# Altium integrated library WE-FB Flyback Transformer suitable for LT3573_LT3574_LT3575_LT3748.IntLib: 63 symbols
Pins are listed as number, name and electrical type; pins without a type are passive.

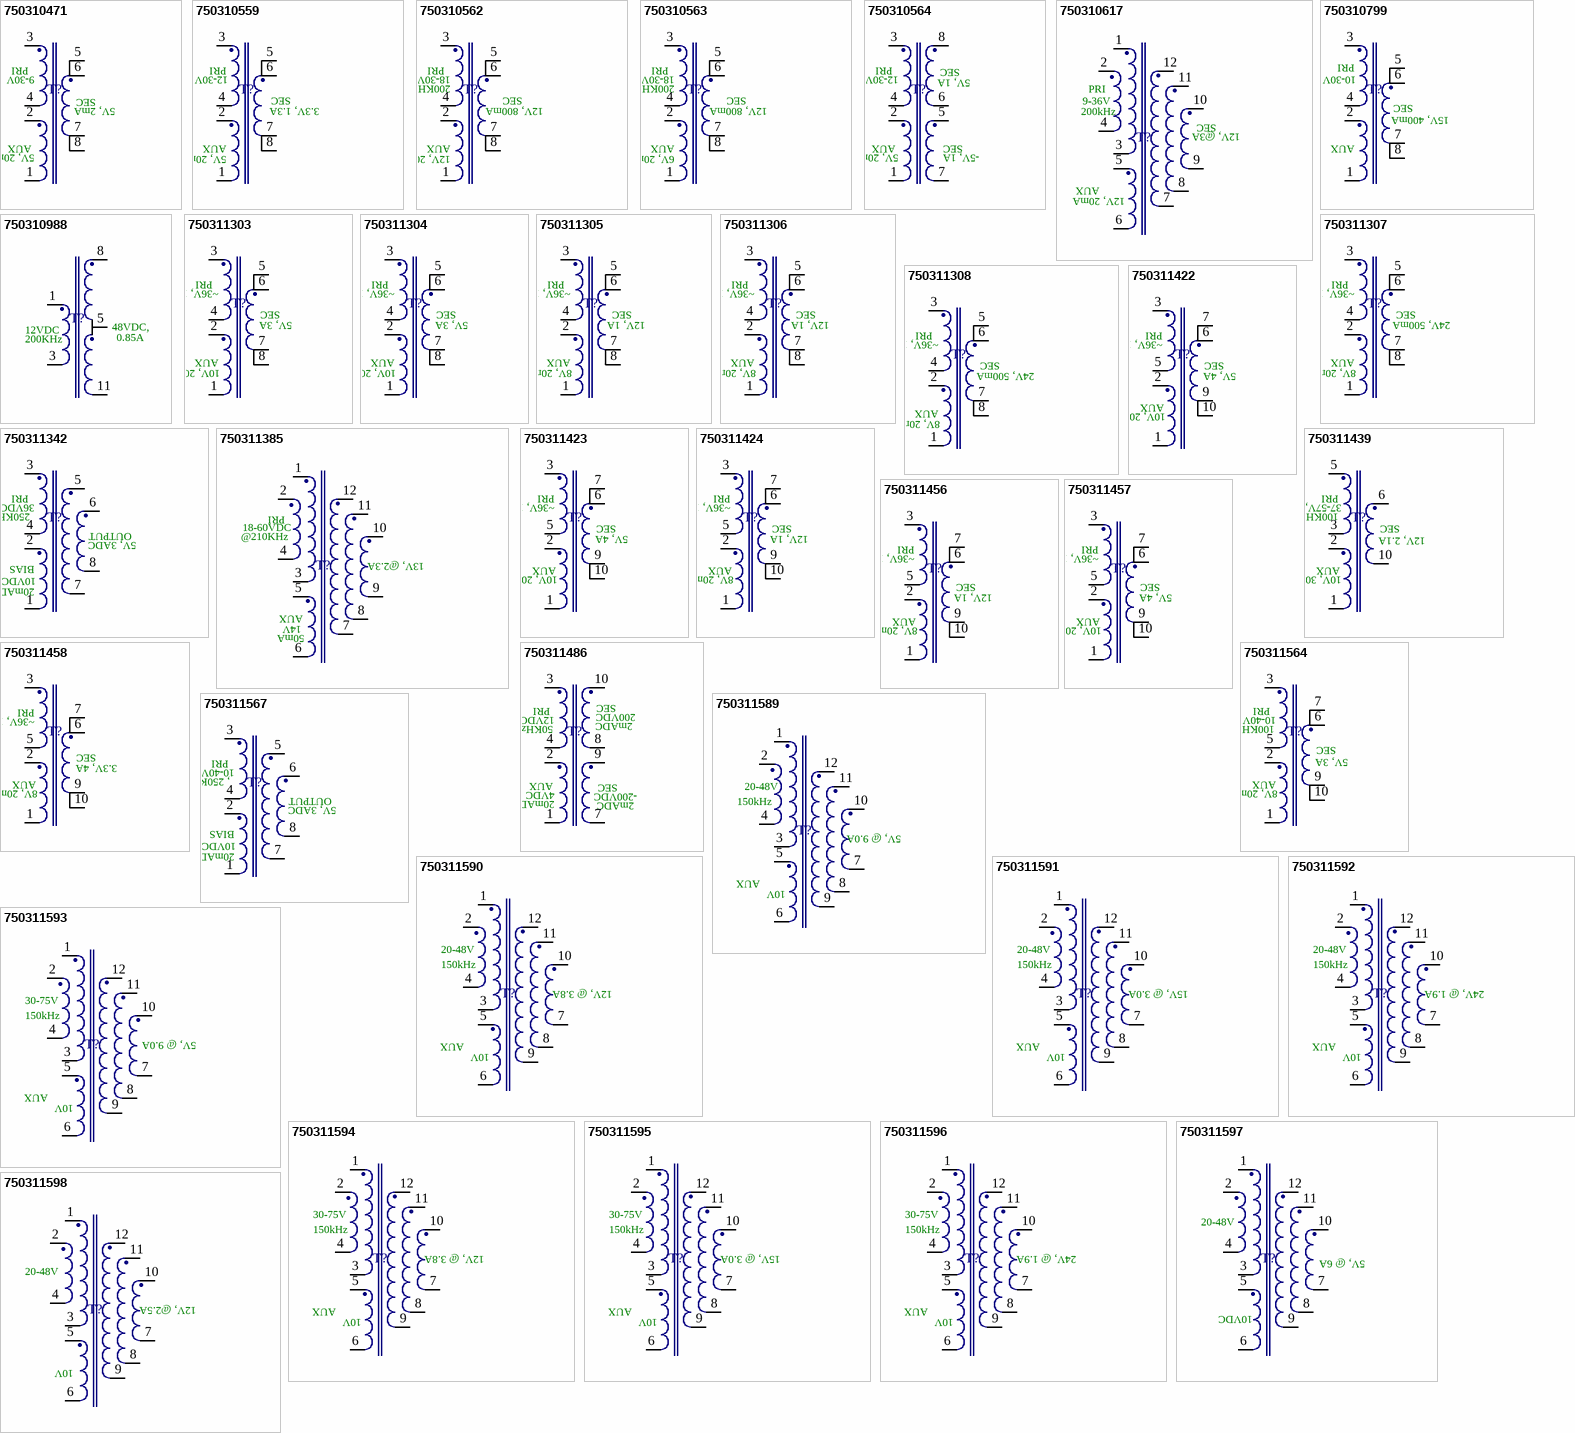
[diagram p0: symbols 750310471 to 750311598]

## 750310471
designator T?
Flyback Transformer suitable or LT3573/ LT3574/ LT3575/ LT3748 WE-FB, Ui=9-30V; PartNumber: 750310471; Ui: 9-30V; PackageReference: EP10; ComponentLink1Description: Manufacturer URL; ComponentLink1URL: http://www.we-online.com; ComponentLink2Description: Datasheet; ComponentLink2URL: http://katalog.we-online.de/pbs/datasheet/750310471.pdf
footprint EP10 (SMD, 8-Leads, Body 13.3x10.0mm (max), Pitch 2.49mm, IPC Medium Density)
pins: 1, 2, 3, 4, 5, 6, 7, 8
text: PRI; SEC; 5V, 2mA; AUX; 5V, 20mA

## 750310559
designator T?
Flyback Transformer suitable or LT3573/ LT3574/ LT3575/ LT3748 WE-FB, Ui=12-30V; PartNumber: 750310559; Ui: 12-30V; PackageReference: EP10; ComponentLink1Description: Manufacturer URL; ComponentLink1URL: http://www.we-online.com; ComponentLink2Description: Datasheet; ComponentLink2URL: http://katalog.we-online.de/pbs/datasheet/750310559.pdf
footprint EP10 (SMD, 8-Leads, Body 13.3x10.0mm (max), Pitch 2.49mm, IPC Medium Density)
pins: 1, 2, 3, 4, 5, 6, 7, 8
text: PRI; SEC; 3.3V, 1.3A; AUX; 5V, 20mA

## 750310562
designator T?
Flyback Transformer suitable or LT3573/ LT3574/ LT3575/ LT3748 WE-FB, Ui=18-30V; PartNumber: 750310562; Ui: 18-30V; PackageReference: EP10; ComponentLink1Description: Manufacturer URL; ComponentLink1URL: http://www.we-online.com; ComponentLink2Description: Datasheet; ComponentLink2URL: http://katalog.we-online.de/pbs/datasheet/750310562.pdf
footprint EP10 (SMD, 8-Leads, Body 13.3x10.0mm (max), Pitch 2.49mm, IPC Medium Density)
pins: 1, 2, 3, 4, 5, 6, 7, 8
text: PRI; 200KHz; SEC; 12V, 800mA; AUX; 12V, 20mA

## 750310563
designator T?
Flyback Transformer suitable or LT3573/ LT3574/ LT3575/ LT3748 WE-FB, Ui=18-30V; PartNumber: 750310563; Ui: 18-30V; PackageReference: EP10; ComponentLink1Description: Manufacturer URL; ComponentLink1URL: http://www.we-online.com; ComponentLink2Description: Datasheet; ComponentLink2URL: http://katalog.we-online.de/pbs/datasheet/750310563.pdf
footprint EP10 (SMD, 8-Leads, Body 13.3x10.0mm (max), Pitch 2.49mm, IPC Medium Density)
pins: 1, 2, 3, 4, 5, 6, 7, 8
text: PRI; 200KHz; SEC; 12V, 800mA; AUX; 6V, 20mA

## 750310564
designator T?
Flyback Transformer suitable or LT3573/ LT3574/ LT3575/ LT3748 WE-FB, Ui=12-30V; PartNumber: 750310564; Ui: 12-30V; PackageReference: EP10; ComponentLink1Description: Manufacturer URL; ComponentLink1URL: http://www.we-online.com; ComponentLink2Description: Datasheet; ComponentLink2URL: http://katalog.we-online.de/pbs/datasheet/750310564.pdf
footprint EP10 (SMD, 8-Leads, Body 13.3x10.0mm (max), Pitch 2.49mm, IPC Medium Density)
pins: 1, 2, 3, 4, 5, 6, 7, 8
text: PRI; SEC; 5V, 1A; AUX; 5V, 20mA; -5V, 1A

## 750310617
designator T?
Flyback Transformer suitable or LT3573/ LT3574/ LT3575/ LT3748 WE-FB, Ui=9-36V; PartNumber: 750310617; Ui: 9-36V; PackageReference: EFD20; ComponentLink1Description: Manufacturer URL; ComponentLink1URL: http://www.we-online.com; ComponentLink2Description: Datasheet; ComponentLink2URL: http://katalog.we-online.de/pbs/datasheet/750310617.pdf
footprint EFD20 (SMD, 10-Leads, Body 22.0x20.0mm (max), Pitch 3.75mm, IPC Medium Density)
pins: 1, 2, 3, 4, 5, 6, 7, 8, 9, 10, 11, 12
text: PRI; 200kHz; SEC; 12V, @3A; AUX; 12V, 20mA

## 750310799
designator T?
Flyback Transformer suitable or LT3573/ LT3574/ LT3575/ LT3748 WE-FB, Ui=18-30V; PartNumber: 750310799; Ui: 18-30V; PackageReference: EP7; ComponentLink1Description: Manufacturer URL; ComponentLink1URL: http://www.we-online.com; ComponentLink2Description: Datasheet; ComponentLink2URL: http://katalog.we-online.de/pbs/datasheet/750310799.pdf
footprint EP7 (SMD, 8-Leads, Body 9.8x7.0mm (max), Pitch 2.49mm, IPC Medium Density)
pins: 1, 2, 3, 4, 5, 6, 7, 8
text: PRI; 10-30V; SEC; 15V, 400mA; AUX

## 750310988
designator T?
Flyback Transformer suitable or LT3573/ LT3574/ LT3575/ LT3748 WE-FB, Ui=12V; PartNumber: 750310988; Ui: 12V; PackageReference: EFD25; ComponentLink1Description: Manufacturer URL; ComponentLink1URL: http://www.we-online.com; ComponentLink2Description: Datasheet; ComponentLink2URL: http://katalog.we-online.de/pbs/datasheet/750310988.pdf
footprint EFD25 (SMD, 12-Leads, Body 27.0x28.0mm (max), Pitch 3.76mm, IPC Medium Density)
pins: 1, 3, 5, 8, 11
text: 12VDC; 48VDC,; 0.85A; 200KHz

## 750311303
designator T?
Flyback Transformer suitable or LT3573/ LT3574/ LT3575/ LT3748 WE-FB, Ui=9-30V; PartNumber: 750311303; Ui: 9-30V; PackageReference: EP10; ComponentLink1Description: Manufacturer URL; ComponentLink1URL: http://www.we-online.com; ComponentLink2Description: Datasheet; ComponentLink2URL: http://katalog.we-online.de/pbs/datasheet/750311303.pdf
footprint EP10 (SMD, 8-Leads, Body 13.3x10.0mm (max), Pitch 2.49mm, IPC Medium Density)
pins: 1, 2, 3, 4, 5, 6, 7, 8
text: PRI; ~36V, 100KHz; SEC; 5V, 3A; AUX; 10V, 20mA

## 750311304
designator T?
Flyback Transformer suitable or LT3573/ LT3574/ LT3575/ LT3748 WE-FB, Ui=9-30V; PartNumber: 750311304; Ui: 9-30V; PackageReference: EP10; ComponentLink1Description: Manufacturer URL; ComponentLink1URL: http://www.we-online.com; ComponentLink2Description: Datasheet; ComponentLink2URL: http://katalog.we-online.de/pbs/datasheet/750311304.pdf
footprint EP10 (SMD, 8-Leads, Body 13.3x10.0mm (max), Pitch 2.49mm, IPC Medium Density)
pins: 1, 2, 3, 4, 5, 6, 7, 8
text: PRI; ~36V, 100KHz; SEC; 5V, 3A; AUX; 10V, 20mA

## 750311305
designator T?
Flyback Transformer suitable or LT3573/ LT3574/ LT3575/ LT3748 WE-FB, Ui=9-30V; PartNumber: 750311305; Ui: 9-30V; PackageReference: EP10; ComponentLink1Description: Manufacturer URL; ComponentLink1URL: http://www.we-online.com; ComponentLink2Description: Datasheet; ComponentLink2URL: http://katalog.we-online.de/pbs/datasheet/750311305.pdf
footprint EP10 (SMD, 8-Leads, Body 13.3x10.0mm (max), Pitch 2.49mm, IPC Medium Density)
pins: 1, 2, 3, 4, 5, 6, 7, 8
text: PRI; ~36V, 100KHz; SEC; 12V, 1A; AUX; 8V, 20mA

## 750311306
designator T?
Flyback Transformer suitable or LT3573/ LT3574/ LT3575/ LT3748 WE-FB, Ui=9-30V; PartNumber: 750311306; Ui: 9-30V; PackageReference: EP10; ComponentLink1Description: Manufacturer URL; ComponentLink1URL: http://www.we-online.com; ComponentLink2Description: Datasheet; ComponentLink2URL: http://katalog.we-online.de/pbs/datasheet/750311306.pdf
footprint EP10 (SMD, 8-Leads, Body 13.3x10.0mm (max), Pitch 2.49mm, IPC Medium Density)
pins: 1, 2, 3, 4, 5, 6, 7, 8
text: PRI; ~36V, 100KHz; SEC; 12V, 1A; AUX; 8V, 20mA

## 750311307
designator T?
Flyback Transformer suitable or LT3573/ LT3574/ LT3575/ LT3748 WE-FB, Ui=9-30V; PartNumber: 750311307; Ui: 9-30V; PackageReference: EP10; ComponentLink1Description: Manufacturer URL; ComponentLink1URL: http://www.we-online.com; ComponentLink2Description: Datasheet; ComponentLink2URL: http://katalog.we-online.de/pbs/datasheet/750311307.pdf
footprint EP10 (SMD, 8-Leads, Body 13.3x10.0mm (max), Pitch 2.49mm, IPC Medium Density)
pins: 1, 2, 3, 4, 5, 6, 7, 8
text: PRI; ~36V, 100KHz; SEC; 24V, 500mA; AUX; 8V, 20mA

## 750311308
designator T?
Flyback Transformer suitable or LT3573/ LT3574/ LT3575/ LT3748 WE-FB, Ui=9-30V; PartNumber: 750311308; Ui: 9-30V; PackageReference: EP10; ComponentLink1Description: Manufacturer URL; ComponentLink1URL: http://www.we-online.com; ComponentLink2Description: Datasheet; ComponentLink2URL: http://katalog.we-online.de/pbs/datasheet/750311308.pdf
footprint EP10 (SMD, 8-Leads, Body 13.3x10.0mm (max), Pitch 2.49mm, IPC Medium Density)
pins: 1, 2, 3, 4, 5, 6, 7, 8
text: PRI; ~36V, 100KHz; SEC; 24V, 500mA; AUX; 8V, 20mA

## 750311342
designator T?
Flyback Transformer suitable or LT3573/ LT3574/ LT3575/ LT3748 WE-FB, Ui=36V; PartNumber: 750311342; Ui: 36V; PackageReference: EFD20 (750311342); ComponentLink1Description: Manufacturer URL; ComponentLink1URL: http://www.we-online.com; ComponentLink2Description: Datasheet; ComponentLink2URL: http://katalog.we-online.de/pbs/datasheet/750311342.pdf
footprint EFD20 (750311342) (SMD, 8-Leads, Body 13.3x10.0mm (max), Pitch 2.49mm, IPC Medium Density)
pins: 1, 2, 3, 4, 5, 6, 7, 8
text: PRI; 36VDC,; 250KHz; OUTPUT; 5V, 3ADC; BIAS; 10VDC,; 20mADC

## 750311385
designator T?
Flyback Transformer suitable or LT3573/ LT3574/ LT3575/ LT3748 WE-FB, Ui=18-60V; PartNumber: 750311385; Ui: 18-60V; PackageReference: EFD20; ComponentLink1Description: Manufacturer URL; ComponentLink1URL: http://www.we-online.com; ComponentLink2Description: Datasheet; ComponentLink2URL: http://katalog.we-online.de/pbs/datasheet/750311385.pdf
footprint EFD20 (SMD, 10-Leads, Body 22.0x20.0mm (max), Pitch 3.75mm, IPC Medium Density)
pins: 1, 2, 3, 4, 5, 6, 7, 8, 9, 10, 11, 12
text: PRI; 18-60VDC; @210KHz; 13V, @2.3A; AUX; 14V; 50mA

## 750311422
designator T?
Flyback Transformer suitable or LT3573/ LT3574/ LT3575/ LT3748 WE-FB, Ui=36V; PartNumber: 750311422; Ui: 36V; PackageReference: EP13; ComponentLink1Description: Manufacturer URL; ComponentLink1URL: http://www.we-online.com; ComponentLink2Description: Datasheet; ComponentLink2URL: http://katalog.we-online.de/pbs/datasheet/750311422.pdf
footprint EP13 (SMD, 10-Leads, Body 13.5x14.0mm (max), Pitch 2.48mm, IPC Medium Density)
pins: 1, 2, 3, 5, 6, 7, 9, 10
text: PRI; ~36V, 100KHz; SEC; 5V, 4A; AUX; 10V, 20mA

## 750311423
designator T?
Flyback Transformer suitable or LT3573/ LT3574/ LT3575/ LT3748 WE-FB, Ui=36V; PartNumber: 750311423; Ui: 36V; PackageReference: EP13; ComponentLink1Description: Manufacturer URL; ComponentLink1URL: http://www.we-online.com; ComponentLink2Description: Datasheet; ComponentLink2URL: http://katalog.we-online.de/pbs/datasheet/7750311423.pdf
footprint EP13 (SMD, 10-Leads, Body 13.5x14.0mm (max), Pitch 2.48mm, IPC Medium Density)
pins: 1, 2, 3, 5, 6, 7, 9, 10
text: PRI; ~36V, 100KHz; SEC; 5V, 4A; AUX; 10V, 20mA

## 750311424
designator T?
Flyback Transformer suitable or LT3573/ LT3574/ LT3575/ LT3748 WE-FB, Ui=36V; PartNumber: 750311424; Ui: 36V; PackageReference: EP13; ComponentLink1Description: Manufacturer URL; ComponentLink1URL: http://www.we-online.com; ComponentLink2Description: Datasheet; ComponentLink2URL: http://katalog.we-online.de/pbs/datasheet/750311424.pdf
footprint EP13 (SMD, 10-Leads, Body 13.5x14.0mm (max), Pitch 2.48mm, IPC Medium Density)
pins: 1, 2, 3, 5, 6, 7, 9, 10
text: PRI; ~36V, 100KHz; SEC; 12V, 1A; AUX; 8V, 20mA

## 750311439
designator T?
Flyback Transformer suitable or LT3573/ LT3574/ LT3575/ LT3748 WE-FB, Ui=37-57V; PartNumber: 750311439; Ui: 37-57V; PackageReference: EP13; ComponentLink1Description: Manufacturer URL; ComponentLink1URL: http://www.we-online.com; ComponentLink2Description: Datasheet; ComponentLink2URL: http://katalog.we-online.de/pbs/datasheet/750311439.pdf
footprint EP13 (SMD, 10-Leads, Body 13.5x14.0mm (max), Pitch 2.48mm, IPC Medium Density)
pins: 1, 2, 3, 5, 6, 10
text: PRI; 37-57V,; 100KHz; SEC; 12V, 2.1A; AUX; 10V, 30mA

## 750311456
designator T?
Flyback Transformer suitable or LT3573/ LT3574/ LT3575/ LT3748 WE-FB, Ui=36V; PartNumber: 750311456; Ui: 36V; PackageReference: EP13; ComponentLink1Description: Manufacturer URL; ComponentLink1URL: http://www.we-online.com; ComponentLink2Description: Datasheet; ComponentLink2URL: http://katalog.we-online.de/pbs/datasheet/750311456.pdf
footprint EP13 (SMD, 10-Leads, Body 13.5x14.0mm (max), Pitch 2.48mm, IPC Medium Density)
pins: 1, 2, 3, 5, 6, 7, 9, 10
text: PRI; ~36V, 100KHz; SEC; 12V, 1A; AUX; 8V, 20mA

## 750311457
designator T?
Flyback Transformer suitable or LT3573/ LT3574/ LT3575/ LT3748 WE-FB, Ui=36V; PartNumber: 750311457; Ui: 36V; PackageReference: EP13; ComponentLink1Description: Manufacturer URL; ComponentLink1URL: http://www.we-online.com; ComponentLink2Description: Datasheet; ComponentLink2URL: http://katalog.we-online.de/pbs/datasheet/750311457.pdf
footprint EP13 (SMD, 10-Leads, Body 13.5x14.0mm (max), Pitch 2.48mm, IPC Medium Density)
pins: 1, 2, 3, 5, 6, 7, 9, 10
text: PRI; ~36V, 100KHz; SEC; 5V, 4A; AUX; 10V, 20mA

## 750311458
designator T?
Flyback Transformer suitable or LT3573/ LT3574/ LT3575/ LT3748 WE-FB, Ui=36V; PartNumber: 750311458; Ui: 36V; PackageReference: EP13; ComponentLink1Description: Manufacturer URL; ComponentLink1URL: http://www.we-online.com; ComponentLink2Description: Datasheet; ComponentLink2URL: http://katalog.we-online.de/pbs/datasheet/750311458.pdf
footprint EP13 (SMD, 10-Leads, Body 13.5x14.0mm (max), Pitch 2.48mm, IPC Medium Density)
pins: 1, 2, 3, 5, 6, 7, 9, 10
text: PRI; ~36V, 100KHz; SEC; 3.3V, 4A; AUX; 8V, 20mA

## 750311486
designator T?
Flyback Transformer suitable or LT3573/ LT3574/ LT3575/ LT3748 WE-FB, Ui=12V; PartNumber: 750311486; Ui: 12V; PackageReference: EP13; ComponentLink1Description: Manufacturer URL; ComponentLink1URL: http://www.we-online.com; ComponentLink2Description: Datasheet; ComponentLink2URL: http://katalog.we-online.de/pbs/datasheet/750311486.pdf
footprint EP13 (SMD, 10-Leads, Body 13.5x14.0mm (max), Pitch 2.48mm, IPC Medium Density)
pins: 1, 2, 3, 4, 7, 8, 9, 10
text: PRI; SEC; 12VDC; 200VDC; 2mADC; 50KHz; AUX; 4VDC; -200VDC; 20mADC

## 750311564
designator T?
Flyback Transformer suitable or LT3573/ LT3574/ LT3575/ LT3748 WE-FB, Ui=10-40V; PartNumber: 750311564; Ui: 10-40V; PackageReference: EP13; ComponentLink1Description: Manufacturer URL; ComponentLink1URL: http://www.we-online.com; ComponentLink2Description: Datasheet; ComponentLink2URL: http://katalog.we-online.de/pbs/datasheet/750311564.pdf
footprint EP13 (SMD, 10-Leads, Body 13.5x14.0mm (max), Pitch 2.48mm, IPC Medium Density)
pins: 1, 2, 3, 5, 6, 7, 9, 10
text: PRI; 10-40V,; 100KHz; SEC; 5V, 3A; AUX; 8V, 20mA

## 750311567
designator T?
Flyback Transformer suitable or LT3573/ LT3574/ LT3575/ LT3748 WE-FB, Ui=10-40V; PartNumber: 750311567; Ui: 10-40V; PackageReference: EP10; ComponentLink1Description: Manufacturer URL; ComponentLink1URL: http://www.we-online.com; ComponentLink2Description: Datasheet; ComponentLink2URL: http://katalog.we-online.de/pbs/datasheet/750311567.pdf
footprint EP10 (SMD, 8-Leads, Body 13.3x10.0mm (max), Pitch 2.49mm, IPC Medium Density)
pins: 1, 2, 3, 4, 5, 6, 7, 8
text: PRI; 10-40VDC; , 250KHz; OUTPUT; 5V, 3ADC; BIAS; 10VDC,; 20mADC

## 750311589
designator T?
Flyback Transformer suitable or LT3573/ LT3574/ LT3575/ LT3748 WE-FB, Ui=20-48V; PartNumber: 750311589; Ui: 20-48V; PackageReference: EFD25; ComponentLink1Description: Manufacturer URL; ComponentLink1URL: http://www.we-online.com; ComponentLink2Description: Datasheet; ComponentLink2URL: http://katalog.we-online.de/pbs/datasheet/750311589.pdf
footprint EFD25 (SMD, 12-Leads, Body 27.0x28.0mm (max), Pitch 3.76mm, IPC Medium Density)
pins: 1, 2, 3, 4, 5, 6, 7, 8, 9, 10, 11, 12
text: 150kHz; 5V, @ 9.0A; AUX; 10V

## 750311590
designator T?
Flyback Transformer suitable or LT3573/ LT3574/ LT3575/ LT3748 WE-FB, Ui=20-48V; PartNumber: 750311590; Ui: 20-48V; PackageReference: EFD25; ComponentLink1Description: Manufacturer URL; ComponentLink1URL: http://www.we-online.com; ComponentLink2Description: Datasheet; ComponentLink2URL: http://katalog.we-online.de/pbs/datasheet/750311590.pdf
footprint EFD25 (SMD, 12-Leads, Body 27.0x28.0mm (max), Pitch 3.76mm, IPC Medium Density)
pins: 1, 2, 3, 4, 5, 6, 7, 8, 9, 10, 11, 12
text: 150kHz; 12V, @ 3.8A; AUX; 10V

## 750311591
designator T?
Flyback Transformer suitable or LT3573/ LT3574/ LT3575/ LT3748 WE-FB, Ui=20-48V; PartNumber: 750311591; Ui: 20-48V; PackageReference: EFD25; ComponentLink1Description: Manufacturer URL; ComponentLink1URL: http://www.we-online.com; ComponentLink2Description: Datasheet; ComponentLink2URL: http://katalog.we-online.de/pbs/datasheet/750311591.pdf
footprint EFD25 (SMD, 12-Leads, Body 27.0x28.0mm (max), Pitch 3.76mm, IPC Medium Density)
pins: 1, 2, 3, 4, 5, 6, 7, 8, 9, 10, 11, 12
text: 150kHz; 15V, @ 3.0A; AUX; 10V

## 750311592
designator T?
Flyback Transformer suitable or LT3573/ LT3574/ LT3575/ LT3748 WE-FB, Ui=20-48V; PartNumber: 750311592; Ui: 20-48V; PackageReference: EFD25; ComponentLink1Description: Manufacturer URL; ComponentLink1URL: http://www.we-online.com; ComponentLink2Description: Datasheet; ComponentLink2URL: http://katalog.we-online.de/pbs/datasheet/750311592.pdf
footprint EFD25 (SMD, 12-Leads, Body 27.0x28.0mm (max), Pitch 3.76mm, IPC Medium Density)
pins: 1, 2, 3, 4, 5, 6, 7, 8, 9, 10, 11, 12
text: 150kHz; 24V, @ 1.9A; AUX; 10V

## 750311593
designator T?
Flyback Transformer suitable or LT3573/ LT3574/ LT3575/ LT3748 WE-FB, Ui=30-75V; PartNumber: 750311593; Ui: 30-75V; PackageReference: EFD25; ComponentLink1Description: Manufacturer URL; ComponentLink1URL: http://www.we-online.com; ComponentLink2Description: Datasheet; ComponentLink2URL: http://katalog.we-online.de/pbs/datasheet/750311593.pdf
footprint EFD25 (SMD, 12-Leads, Body 27.0x28.0mm (max), Pitch 3.76mm, IPC Medium Density)
pins: 1, 2, 3, 4, 5, 6, 7, 8, 9, 10, 11, 12
text: 150kHz; 5V, @ 9.0A; AUX; 10V

## 750311594
designator T?
Flyback Transformer suitable or LT3573/ LT3574/ LT3575/ LT3748 WE-FB, Ui=30-75V; PartNumber: 750311594; Ui: 30-75V; PackageReference: EFD25; ComponentLink1Description: Manufacturer URL; ComponentLink1URL: http://www.we-online.com; ComponentLink2Description: Datasheet; ComponentLink2URL: http://katalog.we-online.de/pbs/datasheet/750311594.pdf
footprint EFD25 (SMD, 12-Leads, Body 27.0x28.0mm (max), Pitch 3.76mm, IPC Medium Density)
pins: 1, 2, 3, 4, 5, 6, 7, 8, 9, 10, 11, 12
text: 150kHz; 12V, @ 3.8A; AUX; 10V

## 750311595
designator T?
Flyback Transformer suitable or LT3573/ LT3574/ LT3575/ LT3748 WE-FB, Ui=30-75V; PartNumber: 750311595; Ui: 30-75V; PackageReference: EFD25; ComponentLink1Description: Manufacturer URL; ComponentLink1URL: http://www.we-online.com; ComponentLink2Description: Datasheet; ComponentLink2URL: http://katalog.we-online.de/pbs/datasheet/750311595.pdf
footprint EFD25 (SMD, 12-Leads, Body 27.0x28.0mm (max), Pitch 3.76mm, IPC Medium Density)
pins: 1, 2, 3, 4, 5, 6, 7, 8, 9, 10, 11, 12
text: 150kHz; 15V, @ 3.0A; AUX; 10V

## 750311596
designator T?
Flyback Transformer suitable or LT3573/ LT3574/ LT3575/ LT3748 WE-FB, Ui=30-75V; PartNumber: 750311596; Ui: 30-75V; PackageReference: EFD25; ComponentLink1Description: Manufacturer URL; ComponentLink1URL: http://www.we-online.com; ComponentLink2Description: Datasheet; ComponentLink2URL: http://katalog.we-online.de/pbs/datasheet/750311596.pdf
footprint EFD25 (SMD, 12-Leads, Body 27.0x28.0mm (max), Pitch 3.76mm, IPC Medium Density)
pins: 1, 2, 3, 4, 5, 6, 7, 8, 9, 10, 11, 12
text: 150kHz; 24V, @ 1.9A; AUX; 10V

## 750311597
designator T?
Flyback Transformer suitable or LT3573/ LT3574/ LT3575/ LT3748 WE-FB, Ui=20-48V; PartNumber: 750311597; Ui: 20-48V; PackageReference: EFD20; ComponentLink1Description: Manufacturer URL; ComponentLink1URL: http://www.we-online.com; ComponentLink2Description: Datasheet; ComponentLink2URL: http://katalog.we-online.de/pbs/datasheet/750311597.pdf
footprint EFD20 (SMD, 10-Leads, Body 22.0x20.0mm (max), Pitch 3.75mm, IPC Medium Density)
pins: 1, 2, 3, 4, 5, 6, 7, 8, 9, 10, 11, 12
text: 5V, @ 6A; 10VDC

## 750311598
designator T?
Flyback Transformer suitable or LT3573/ LT3574/ LT3575/ LT3748 WE-FB, Ui=20-48V; PartNumber: 750311598; Ui: 20-48V; PackageReference: EFD20; ComponentLink1Description: Manufacturer URL; ComponentLink1URL: http://www.we-online.com; ComponentLink2Description: Datasheet; ComponentLink2URL: http://katalog.we-online.de/pbs/datasheet/750311598.pdf
footprint EFD20 (SMD, 10-Leads, Body 22.0x20.0mm (max), Pitch 3.75mm, IPC Medium Density)
pins: 1, 2, 3, 4, 5, 6, 7, 8, 9, 10, 11, 12
text: 12V, @2.5A; 10V

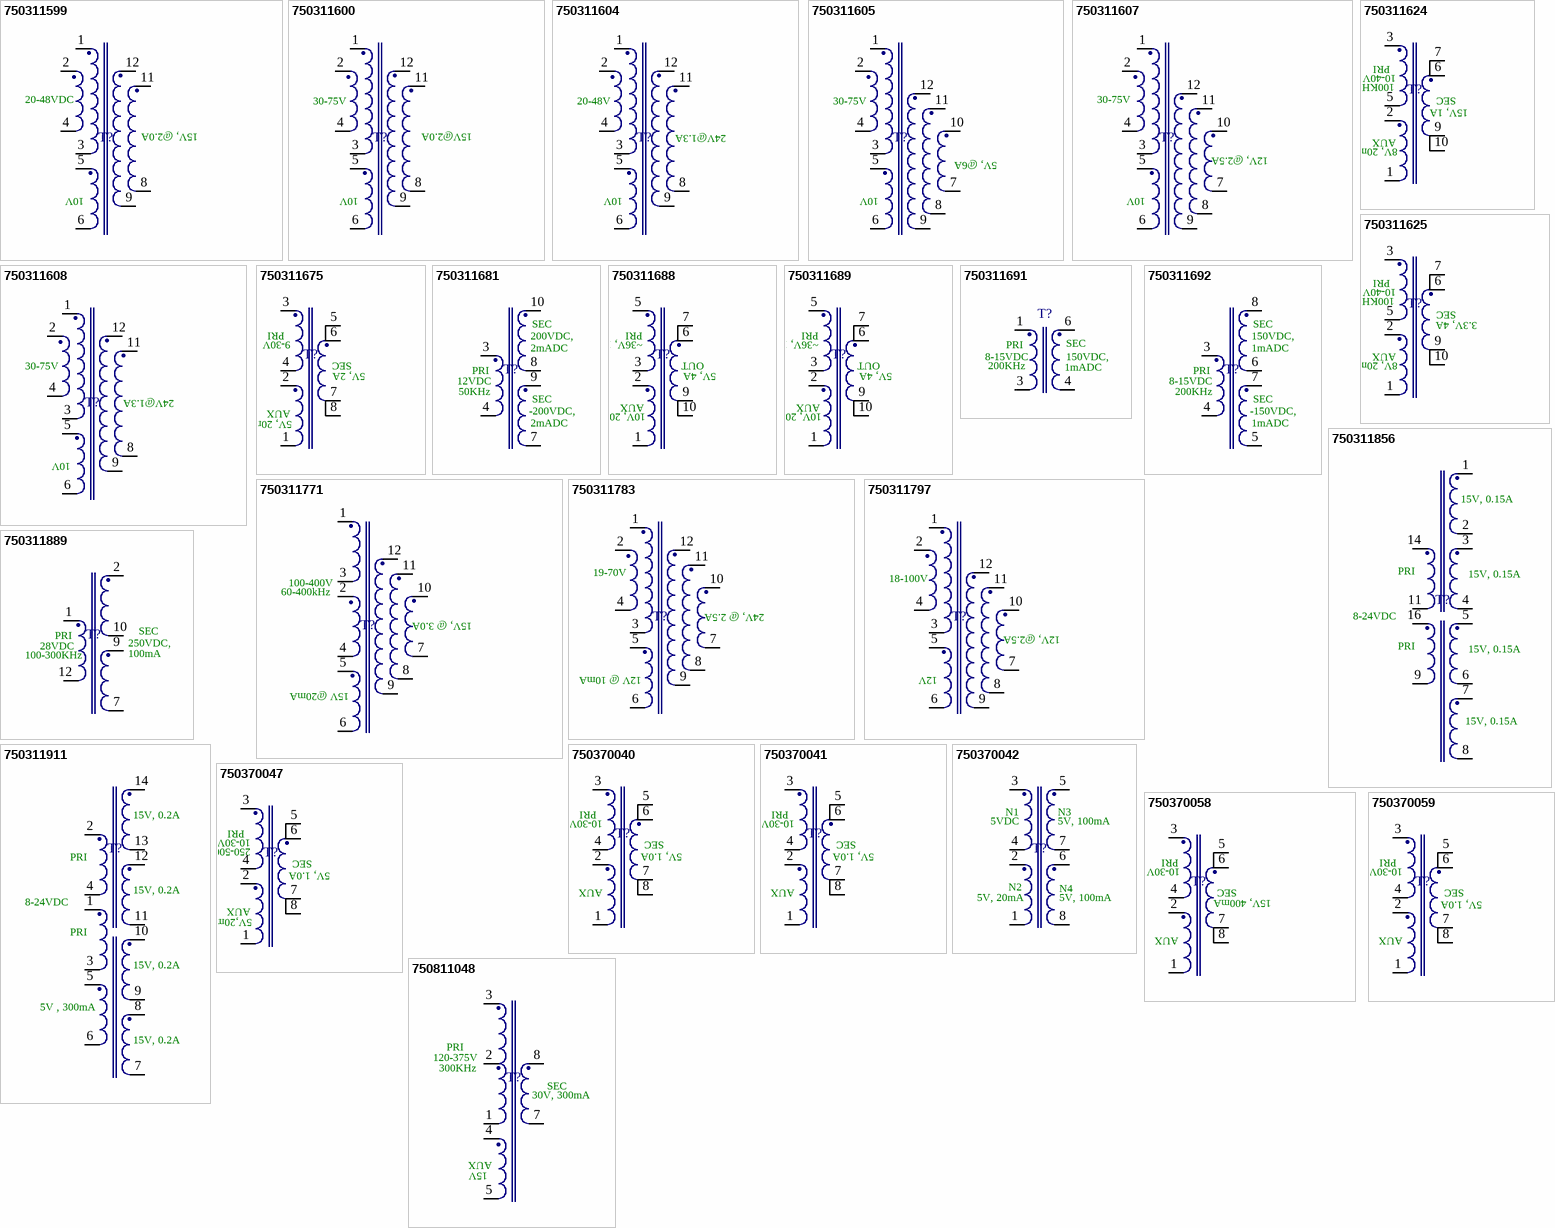
[diagram p1: symbols 750311599 to 750811048]

## 750311599
designator T?
Flyback Transformer suitable or LT3573/ LT3574/ LT3575/ LT3748 WE-FB, Ui=20-48V; PartNumber: 750311599; Ui: 20-48V; PackageReference: EFD20; ComponentLink1Description: Manufacturer URL; ComponentLink1URL: http://www.we-online.com; ComponentLink2Description: Datasheet; ComponentLink2URL: http://katalog.we-online.de/pbs/datasheet/750311599.pdf
footprint EFD20 (SMD, 10-Leads, Body 22.0x20.0mm (max), Pitch 3.75mm, IPC Medium Density)
pins: 1, 2, 3, 4, 5, 6, 8, 9, 11, 12
text: 20-48VDC; 15V, @2.0A; 10V

## 750311600
designator T?
Flyback Transformer suitable or LT3573/ LT3574/ LT3575/ LT3748 WE-FB, Ui=30-75V; PartNumber: 750311600; Ui: 30-75V; PackageReference: EFD20; ComponentLink1Description: Manufacturer URL; ComponentLink1URL: http://www.we-online.com; ComponentLink2Description: Datasheet; ComponentLink2URL: http://katalog.we-online.de/pbs/datasheet/750311600.pdf
footprint EFD20 (SMD, 10-Leads, Body 22.0x20.0mm (max), Pitch 3.75mm, IPC Medium Density)
pins: 1, 2, 3, 4, 5, 6, 8, 9, 11, 12
text: 15V@2.0A; 10V

## 750311604
designator T?
Flyback Transformer suitable or LT3573/ LT3574/ LT3575/ LT3748 WE-FB, Ui=20-48V; PartNumber: 750311604; Ui: 20-48V; PackageReference: EFD20; ComponentLink1Description: Manufacturer URL; ComponentLink1URL: http://www.we-online.com; ComponentLink2Description: Datasheet; ComponentLink2URL: http://katalog.we-online.de/pbs/datasheet/750311604.pdf
footprint EFD20 (SMD, 10-Leads, Body 22.0x20.0mm (max), Pitch 3.75mm, IPC Medium Density)
pins: 1, 2, 3, 4, 5, 6, 8, 9, 11, 12
text: 24V@1.3A; 10V

## 750311605
designator T?
Flyback Transformer suitable or LT3573/ LT3574/ LT3575/ LT3748 WE-FB, Ui=30-75V; PartNumber: 750311605; Ui: 30-75V; PackageReference: EFD20; ComponentLink1Description: Manufacturer URL; ComponentLink1URL: http://www.we-online.com; ComponentLink2Description: Datasheet; ComponentLink2URL: http://katalog.we-online.de/pbs/datasheet/750311605.pdf
footprint EFD20 (SMD, 10-Leads, Body 22.0x20.0mm (max), Pitch 3.75mm, IPC Medium Density)
pins: 1, 2, 3, 4, 5, 6, 7, 8, 9, 10, 11, 12
text: 5V, @6A; 10V

## 750311607
designator T?
Flyback Transformer suitable or LT3573/ LT3574/ LT3575/ LT3748 WE-FB, Ui=30-75V; PartNumber: 750311607; Ui: 30-75V; PackageReference: EFD20; ComponentLink1Description: Manufacturer URL; ComponentLink1URL: http://www.we-online.com; ComponentLink2Description: Datasheet; ComponentLink2URL: http://katalog.we-online.de/pbs/datasheet/750311607.pdf
footprint EFD20 (SMD, 10-Leads, Body 22.0x20.0mm (max), Pitch 3.75mm, IPC Medium Density)
pins: 1, 2, 3, 4, 5, 6, 7, 8, 9, 10, 11, 12
text: 12V, @2.5A; 10V

## 750311608
designator T?
Flyback Transformer suitable or LT3573/ LT3574/ LT3575/ LT3748 WE-FB, Ui=30-75V; PartNumber: 750311608; Ui: 30-75V; PackageReference: EFD20; ComponentLink1Description: Manufacturer URL; ComponentLink1URL: http://www.we-online.com; ComponentLink2Description: Datasheet; ComponentLink2URL: http://katalog.we-online.de/pbs/datasheet/750311608.pdf
footprint EFD20 (SMD, 10-Leads, Body 22.0x20.0mm (max), Pitch 3.75mm, IPC Medium Density)
pins: 1, 2, 3, 4, 5, 6, 8, 9, 11, 12
text: 24V@1.3A; 10V

## 750311624
designator T?
Flyback Transformer suitable or LT3573/ LT3574/ LT3575/ LT3748 WE-FB, Ui=10-40V; PartNumber: 750311624; Ui: 10-40V; PackageReference: EP13; ComponentLink1Description: Manufacturer URL; ComponentLink1URL: http://www.we-online.com; ComponentLink2Description: Datasheet; ComponentLink2URL: http://katalog.we-online.de/pbs/datasheet/750311624.pdf
footprint EP13 (SMD, 10-Leads, Body 13.5x14.0mm (max), Pitch 2.48mm, IPC Medium Density)
pins: 1, 2, 3, 5, 6, 7, 9, 10
text: PRI; 10-40V,; 100KHz; SEC; 15V, 1A; AUX; 8V, 20mA

## 750311625
designator T?
Flyback Transformer suitable or LT3573/ LT3574/ LT3575/ LT3748 WE-FB, Ui=10-40V; PartNumber: 750311625; Ui: 10-40V; PackageReference: EP13; ComponentLink1Description: Manufacturer URL; ComponentLink1URL: http://www.we-online.com; ComponentLink2Description: Datasheet; ComponentLink2URL: http://katalog.we-online.de/pbs/datasheet/750311625.pdf
footprint EP13 (SMD, 10-Leads, Body 13.5x14.0mm (max), Pitch 2.48mm, IPC Medium Density)
pins: 1, 2, 3, 5, 6, 7, 9, 10
text: PRI; 10-40V,; 100KHz; SEC; 3.3V, 4A; AUX; 8V, 20mA

## 750311675
designator T?
Flyback Transformer suitable or LT3573/ LT3574/ LT3575/ LT3748 WE-FB, Ui=9-30V; PartNumber: 750311675; Ui: 9-30V; PackageReference: EP10; ComponentLink1Description: Manufacturer URL; ComponentLink1URL: http://www.we-online.com; ComponentLink2Description: Datasheet; ComponentLink2URL: http://katalog.we-online.de/pbs/datasheet/750311675.pdf
footprint EP10 (SMD, 8-Leads, Body 13.3x10.0mm (max), Pitch 2.49mm, IPC Medium Density)
pins: 1, 2, 3, 4, 5, 6, 7, 8
text: PRI; SEC; 5V, 2A; AUX; 5V, 20mA

## 750311681
designator T?
Flyback Transformer suitable or LT3573/ LT3574/ LT3575/ LT3748 WE-FB, Ui=12V; PartNumber: 750311681; Ui: 12V; PackageReference: EP13; ComponentLink1Description: Manufacturer URL; ComponentLink1URL: http://www.we-online.com; ComponentLink2Description: Datasheet; ComponentLink2URL: http://katalog.we-online.de/pbs/datasheet/750311681.pdf
footprint EP13 (SMD, 10-Leads, Body 13.5x14.0mm (max), Pitch 2.48mm, IPC Medium Density)
pins: 3, 4, 7, 8, 9, 10
text: SEC; 200VDC,; 2mADC; PRI; 12VDC; 50KHz; -200VDC,

## 750311688
designator T?
Flyback Transformer suitable or LT3573/ LT3574/ LT3575/ LT3748 WE-FB, Ui=36V; PartNumber: 750311688; Ui: 36V; PackageReference: EP13; ComponentLink1Description: Manufacturer URL; ComponentLink1URL: http://www.we-online.com; ComponentLink2Description: Datasheet; ComponentLink2URL: http://katalog.we-online.de/pbs/datasheet/750311688.pdf
footprint EP13 (SMD, 10-Leads, Body 13.5x14.0mm (max), Pitch 2.48mm, IPC Medium Density)
pins: 1, 2, 3, 5, 6, 7, 9, 10
text: PRI; ~36V, 100KHz; OUT; 5V, 4A; AUX; 10V, 20mA

## 750311689
designator T?
Flyback Transformer suitable or LT3573/ LT3574/ LT3575/ LT3748 WE-FB, Ui=36V; PartNumber: 750311689; Ui: 36V; PackageReference: EP13; ComponentLink1Description: Manufacturer URL; ComponentLink1URL: http://www.we-online.com; ComponentLink2Description: Datasheet; ComponentLink2URL: http://katalog.we-online.de/pbs/datasheet/750311689.pdf
footprint EP13 (SMD, 10-Leads, Body 13.5x14.0mm (max), Pitch 2.48mm, IPC Medium Density)
pins: 1, 2, 3, 5, 6, 7, 9, 10
text: PRI; ~36V, 100KHz; OUT; 5V, 4A; AUX; 10V, 20mA

## 750311691
designator T?
Flyback Transformer suitable or LT3573/ LT3574/ LT3575/ LT3748 WE-FB, Ui=8-15V; PartNumber: 750311691; Ui: 8-15V; PackageReference: EP5; ComponentLink1Description: Manufacturer URL; ComponentLink1URL: http://www.we-online.com; ComponentLink2Description: Datasheet; ComponentLink2URL: http://katalog.we-online.de/pbs/datasheet/750311691.pdf
footprint EP5 (SMD, 6-Leads, Body 6.6x6.0mm (max), Pitch 1.85mm, IPC Medium Density)
pins: 1, 3, 4, 6
text: PRI; SEC; 8-15VDC; 150VDC,; 200KHz; 1mADC

## 750311692
designator T?
Flyback Transformer suitable or LT3573/ LT3574/ LT3575/ LT3748 WE-FB, Ui=8-15V; PartNumber: 750311692; Ui: 8-15V; PackageReference: EP7; ComponentLink1Description: Manufacturer URL; ComponentLink1URL: http://www.we-online.com; ComponentLink2Description: Datasheet; ComponentLink2URL: http://katalog.we-online.de/pbs/datasheet/750311692.pdf
footprint EP7 (SMD, 8-Leads, Body 9.8x7.0mm (max), Pitch 2.49mm, IPC Medium Density)
pins: 3, 4, 5, 6, 7, 8
text: SEC; 150VDC,; 1mADC; PRI; 8-15VDC; 200KHz; -150VDC,

## 750311771
designator T?
Flyback Transformer suitable or LT3573/ LT3574/ LT3575/ LT3748 WE-FB, Ui=100-400V; PartNumber: 750311771; PackageReference: EFD25; Ui: 100-400V; ComponentLink1Description: Manufacturer URL; ComponentLink1URL: http://www.we-online.com; ComponentLink2Description: Datasheet; ComponentLink2URL: http://katalog.we-online.de/pbs/datasheet/750311771.pdf
footprint EFD25 (SMD, 12-Leads, Body 27.0x28.0mm (max), Pitch 3.76mm, IPC Medium Density)
pins: 1, 2, 3, 4, 5, 6, 7, 8, 9, 10, 11, 12
text: 60-400kHz; 15V, @ 3.0A; 15V @20mA

## 750311783
designator T?
Flyback Transformer suitable or LT3573/ LT3574/ LT3575/ LT3748 WE-FB, Ui=19-70V; PartNumber: 750311783; Ui: 19-70V; PackageReference: EFD25; ComponentLink1Description: Manufacturer URL; ComponentLink1URL: http://www.we-online.com; ComponentLink2Description: Datasheet; ComponentLink2URL: http://katalog.we-online.de/pbs/datasheet/750311783.pdf
footprint EFD25 (SMD, 12-Leads, Body 27.0x28.0mm (max), Pitch 3.76mm, IPC Medium Density)
pins: 1, 2, 3, 4, 5, 6, 7, 8, 9, 10, 11, 12
text: 24V, @ 2.5A; 12V @ 10mA

## 750311797
designator T?
Flyback Transformer suitable or LT3573/ LT3574/ LT3575/ LT3748 WE-FB, Ui=18-100V; PartNumber: 750311797; PackageReference: EFD20; Ui: 18-100V; ComponentLink1Description: Manufacturer URL; ComponentLink1URL: http://www.we-online.com; ComponentLink2Description: Datasheet; ComponentLink2URL: http://katalog.we-online.de/pbs/datasheet/750311797.pdf
footprint EFD20 (SMD, 10-Leads, Body 22.0x20.0mm (max), Pitch 3.75mm, IPC Medium Density)
pins: 1, 2, 3, 4, 5, 6, 7, 8, 9, 10, 11, 12
text: 12V, @2.5A; 12V

## 750311856
designator T?
Flyback Transformer suitable or LT3573/ LT3574/ LT3575/ LT3748 WE-FB, Ui=16-24V; PartNumber: 750311856; Ui: 16-24V; PackageReference: EP13 (750311856); ComponentLink1Description: Manufacturer URL; ComponentLink1URL: http://www.we-online.com; ComponentLink2Description: Datasheet; ComponentLink2URL: http://katalog.we-online.de/pbs/datasheet/750311856.pdf
footprint EP13 (750311856) (SMD, 12-Leads, Body 14.0x14.0mm (max), Pitch 1.70mm, IPC Medium Density)
pins: 1, 2, 3, 4, 5, 6, 7, 8, 9, 11, 14, 16
text: 15V, 0.15A; PRI; 8-24VDC

## 750311889
designator T?
Flyback Transformer suitable or LT3573/ LT3574/ LT3575/ LT3748 WE-FB, Ui=28V; PartNumber: 750311889; Ui: 28V; PackageReference: EFD25; ComponentLink1Description: Manufacturer URL; ComponentLink1URL: http://www.we-online.com; ComponentLink2Description: Datasheet; ComponentLink2URL: http://katalog.we-online.de/pbs/datasheet/750311889.pdf
footprint EFD25 (SMD, 12-Leads, Body 27.0x28.0mm (max), Pitch 3.76mm, IPC Medium Density)
pins: 1, 2, 7, 9, 10, 12
text: SEC; PRI; 28VDC; 250VDC,; 100mA; 100-300KHz

## 750311911
designator T?
Flyback Transformer suitable or LT3573/ LT3574/ LT3575/ LT3748 WE-FB, Ui=16-24V; PartNumber: 750311911; Ui: 16-24V; PackageReference: EE20/10/6; ComponentLink1Description: Manufacturer URL; ComponentLink1URL: http://www.we-online.com; ComponentLink2Description: Datasheet; ComponentLink2URL: http://katalog.we-online.de/pbs/datasheet/750311911.pdf
footprint EE20/10/6 (TH, 14-Leads, Body 25.0x22.20mm (max), Pitch 2.49mm)
pins: 1, 2, 3, 4, 5, 6, 7, 8, 9, 10, 11, 12, 13, 14
text: 15V, 0.2A; PRI; 8-24VDC; 5V , 300mA

## 750370040
designator T?
Flyback Transformer suitable or LT3573/ LT3574/ LT3575/ LT3748 WE-FB, Ui=18-30V; PartNumber: 750370040; Ui: 18-30V; PackageReference: EP7; ComponentLink1Description: Manufacturer URL; ComponentLink1URL: http://www.we-online.com; ComponentLink2Description: Datasheet; ComponentLink2URL: http://katalog.we-online.de/pbs/datasheet/750370040.pdf
footprint EP7 (SMD, 8-Leads, Body 9.8x7.0mm (max), Pitch 2.49mm, IPC Medium Density)
pins: 1, 2, 3, 4, 5, 6, 7, 8
text: PRI; 10-30V; SEC; 5V, 1.0A; AUX

## 750370041
designator T?
Flyback Transformer suitable or LT3573/ LT3574/ LT3575/ LT3748 WE-FB, Ui=18-30V; PartNumber: 750370041; Ui: 18-30V; PackageReference: EP7; ComponentLink1Description: Manufacturer URL; ComponentLink1URL: http://www.we-online.com; ComponentLink2Description: Datasheet; ComponentLink2URL: http://katalog.we-online.de/pbs/datasheet/750370041.pdf
footprint EP7 (SMD, 8-Leads, Body 9.8x7.0mm (max), Pitch 2.49mm, IPC Medium Density)
pins: 1, 2, 3, 4, 5, 6, 7, 8
text: PRI; 10-30V; SEC; 5V, 1.0A; AUX

## 750370042
designator T?
Flyback Transformer suitable or LT3573/ LT3574/ LT3575/ LT3748 WE-FB, Ui=5V; PartNumber: 750370042; Ui: 5V; PackageReference: ER9.5; ComponentLink1Description: Manufacturer URL; ComponentLink1URL: http://www.we-online.com; ComponentLink2Description: Datasheet; ComponentLink2URL: http://katalog.we-online.de/pbs/datasheet/750370042.pdf
footprint ER9.5 (SMD, 8-Leads, Body 10.4x8.0mm (max), Pitch 2.00mm, IPC Medium Density)
pins: 1, 2, 3, 4, 5, 6, 7, 8
text: N1; N3; 5VDC; 5V, 100mA; N2; N4; 5V, 20mA

## 750370047
designator T?
Flyback Transformer suitable or LT3573/ LT3574/ LT3575/ LT3748 WE-FB, Ui=18-30V; PartNumber: 750370047; Ui: 18-30V; PackageReference: EP7 (BIG); ComponentLink1Description: Manufacturer URL; ComponentLink1URL: http://www.we-online.com; ComponentLink2Description: Datasheet; ComponentLink2URL: http://katalog.we-online.de/pbs/datasheet/750370047.pdf
footprint EP7 (BIG) (SMD, 8-Leads, Body 10.8x10.0mm (max), Pitch 2.50mm, IPC Medium Density)
pins: 1, 2, 3, 4, 5, 6, 7, 8
text: PRI; 10-30V; 250-500KHz; SEC; 5V, 1.0A; AUX; 5V,20mA

## 750370058
designator T?
Flyback Transformer suitable or LT3573/ LT3574/ LT3575/ LT3748 WE-FB, Ui=18-30V; PartNumber: 750370058; Ui: 18-30V; PackageReference: EP7 (BIG); ComponentLink1Description: Manufacturer URL; ComponentLink1URL: http://www.we-online.com; ComponentLink2Description: Datasheet; ComponentLink2URL: http://katalog.we-online.de/pbs/datasheet/750370058.pdf
footprint EP7 (BIG) (SMD, 8-Leads, Body 10.8x10.0mm (max), Pitch 2.50mm, IPC Medium Density)
pins: 1, 2, 3, 4, 5, 6, 7, 8
text: PRI; 10-30V; SEC; 15V, 400mA; AUX

## 750370059
designator T?
Flyback Transformer suitable or LT3573/ LT3574/ LT3575/ LT3748 WE-FB, Ui=18-30V; PartNumber: 750370059; Ui: 18-30V; PackageReference: EP7 (BIG); ComponentLink1Description: Manufacturer URL; ComponentLink1URL: http://www.we-online.com; ComponentLink2Description: Datasheet; ComponentLink2URL: http://katalog.we-online.de/pbs/datasheet/750370059.pdf
footprint EP7 (BIG) (SMD, 8-Leads, Body 10.8x10.0mm (max), Pitch 2.50mm, IPC Medium Density)
pins: 1, 2, 3, 4, 5, 6, 7, 8
text: PRI; 10-30V; SEC; 5V, 1.0A; AUX

## 750811048
designator T?
Flyback Transformer suitable or LT3573/ LT3574/ LT3575/ LT3748 WE-FB, Ui=100-400 VDC; PartNumber: 750811048; PackageReference: EE16/8/5; Ui: 100-400 VDC; ComponentLink1Description: Manufacturer URL; ComponentLink1URL: http://www.we-online.com; ComponentLink2Description: Datasheet; ComponentLink2URL: http://katalog.we-online.de/pbs/datasheet/750811048.pdf
footprint EE16/8/5 (TH, 9-Leads, Body 24.38x20.32mm (max), Pitch 3.50mm)
pins: 1, 2, 3, 4, 5, 7, 8
text: PRI; 120-375V; 300KHz; SEC; 30V, 300mA; AUX; 15V